# Altium footprint library Capacitor_SMD.PcbLib: 9 footprints
Each footprint in its own frame and in the unit in brackets; x right, y up, seen from the top. Pads: shape width x height; smd on the part's side, far side on the other; paste and mask are expansions set on the pad; w line width, h text height; cw(c..) or ccw(c..) is an arc to the next point about the centre after c.
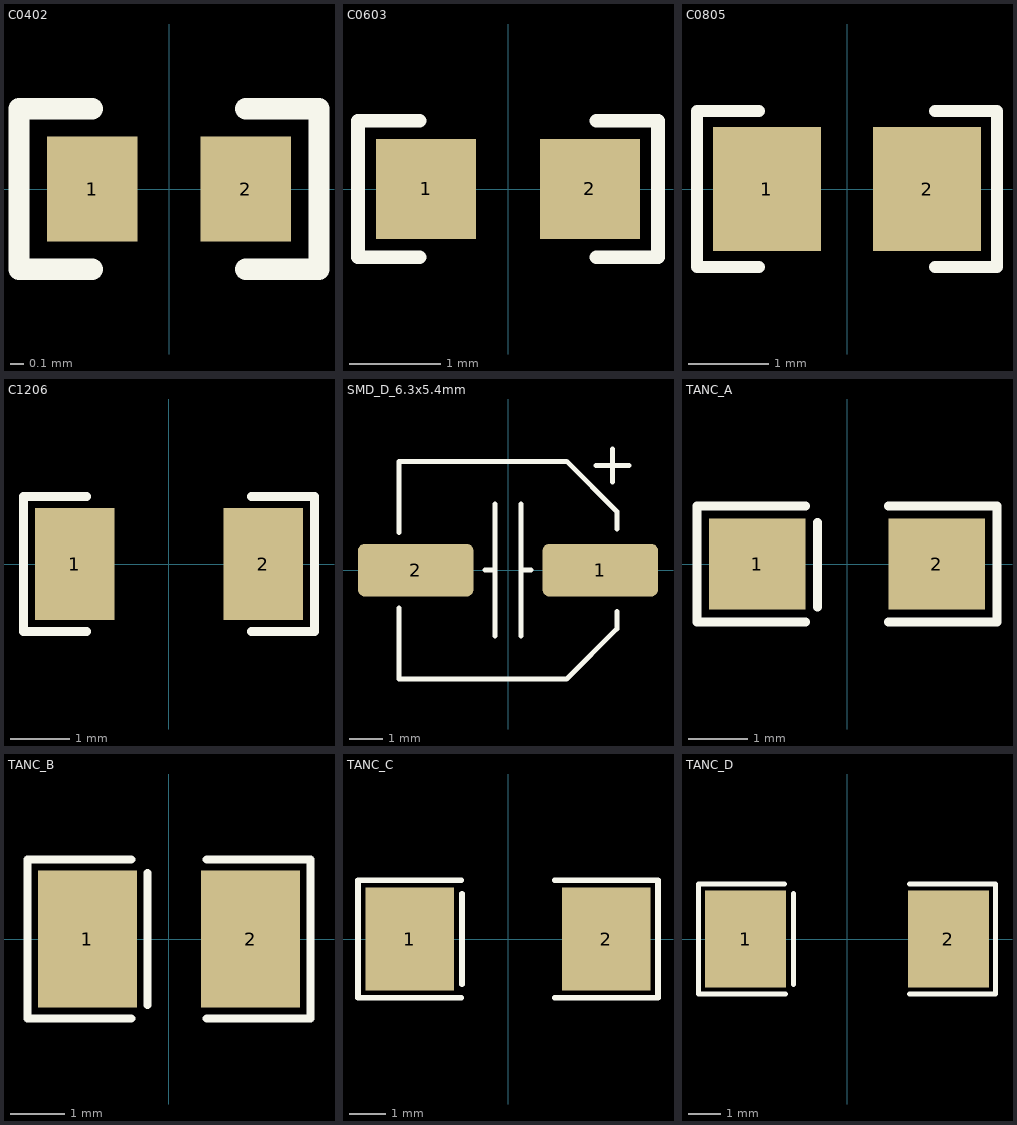
[diagram p0: the footprints below, top view; thin cyan lines are the x and y axes]

## C0402 [mm] "Chip Resistor, Body 1.0x0.5mm, IPC Low Density"
height 0.4
pads (2):
  rect 0.65x0.75 smd: 1(-0.55,0) 2(0.55,0)
Top Overlay:
  lines w0.152: -0.55,-0.575 -1.075,-0.575 -1.075,0.575 -0.55,0.575 ; 0.55,-0.575 1.075,-0.575 1.075,0.575 0.55,0.575
3D body: height 0.4, standoff 0, extent -0.525,-0.275 -0.3,0.275
3D body: height 0.4, standoff 0, extent -0.3,-0.275 0.3,0.275
3D body: height 0.4, standoff 0, extent 0.3,-0.275 0.525,0.275

## C0603 [mm] "Chip Resistor, Body 1.6x0.8mm, IPC Low Density"
height 0.6
pads (2):
  rect 1.1x1.1 smd: 1(-0.9,0) 2(0.9,0)
Top Overlay:
  lines w0.152: -0.975,-0.75 -1.65,-0.75 -1.65,0.75 -0.975,0.75 ; 0.975,-0.75 1.65,-0.75 1.65,0.75 0.975,0.75
3D body: height 0.6, standoff 0, extent -0.849,-0.474 -0.58,0.475
3D body: height 0.6, standoff 0, extent -0.58,-0.474 0.581,0.475
3D body: height 0.6, standoff 0, extent 0.581,-0.474 0.85,0.475

## C0805 [mm] "Chip Capacitor, Body 2.0x1.2mm, Height 1.3mm, IPC Low Density"
height 1.3
pads (2):
  rect 1.35x1.55 smd: 1(-1,0) 2(1,0)
Top Overlay:
  lines w0.152: -1.1,-0.975 -1.875,-0.975 -1.875,0.975 -1.1,0.975 ; 1.1,-0.975 1.875,-0.975 1.875,0.975 1.1,0.975
3D body: height 1.3, standoff 0, extent -0.6,-0.725 0.6,0.725
3D body: height 1.3, standoff 0, extent -1.1,-0.725 -0.6,0.725
3D body: height 1.3, standoff 0, extent 0.6,-0.725 1.1,0.725

## C1206 [mm] "Chip Capacitor, Body 3.2x1.6mm, Height 1.5mm, IPC Low Density"
height 1.5
pads (2):
  rect 1.35x1.9 smd: 1(-1.6,0) 2(1.6,0)
Top Overlay:
  lines w0.152: -1.4,-1.15 -2.475,-1.15 -2.475,1.15 -1.4,1.15 ; 1.4,-1.15 2.475,-1.15 2.475,1.15 1.4,1.15
3D body: height 1.5, standoff 0, extent -1.2,-0.9 1.2,0.9
3D body: height 1.5, standoff 0, extent -1.7,-0.9 -1.2,0.9
3D body: height 1.5, standoff 0, extent 1.2,-0.9 1.7,0.9

## SMD_D_6.3x5.4mm [mm]
height 11
pads (2):
  rrect25% 3.5x1.6 smd: 1(2.8,0) 2(-2.8,0)
Top Overlay:
  lines w0.152: -3.3,-1.15 -3.3,-3.3 1.78,-3.3 3.3,-1.78 3.3,-1.25 ; -3.3,1.15 -3.3,3.3 1.78,3.3 3.3,1.78 3.3,1.25 ; -0.7,0 -0.5,0 ; -0.4,-2 -0.4,2 ; 0.4,-2 0.4,2 ; 0.5,0 0.7,0 ; 2.675,3.175 3.175,3.175 3.675,3.175 ; 3.175,2.675 3.175,3.675
3D body: height 5.4, standoff 0, extent -3.5,-3.3 3.5,3.3

## TANC_A [mil]
pads (2):
  rect 64x60 smd: 1(-59.53,0) 2(59.53,0)
Top Overlay:
  lines w6: -27.56,-38.39 -99.41,-38.39 -99.41,38.39 -27.56,38.39 ; -19.68,-28.54 -19.68,27.56 ; 27.56,-38.39 99.41,-38.39 99.41,38.39 27.56,38.39
3D body: height 35, standoff 0, extent 61.52,-11.5 63.52,11.5
3D body: height 60, standoff 0, extent -63.46,-31.5 -38.46,31.5
3D body: height 62.99, standoff 0, extent -38.46,-31.5 62.52,31.5
3D body: height 62.99, standoff 60, extent -63.46,-31.5 -38.46,31.5
3D body: height 35, standoff 0, extent -64.46,-11.5 -62.46,11.5

## TANC_B [mil]
pads (2):
  rect 72x100 smd: 1(-59.53,0) 2(59.53,0)
Top Overlay:
  lines w6: -27.56,-58.07 -103.35,-58.07 -103.35,58.07 -27.56,58.07 ; -15.75,-48.23 -15.75,48.23 ; 27.56,-58.07 103.35,-58.07 103.35,58.07 27.56,58.07
3D body: height 39.37, standoff 0, extent 68.41,-11.5 70.41,11.5
3D body: height 71.81, standoff 0, extent -68.39,-55.12 -43.39,55.12
3D body: height 74.8, standoff 0, extent -43.39,-55.12 69.41,55.12
3D body: height 74.8, standoff 71.81, extent -68.39,-55.12 -43.39,55.12
3D body: height 39.37, standoff 0, extent -69.38,-11.5 -67.38,11.5

## TANC_C [mil]
pads (2):
  rect 95x110 smd: 1(-105,0) 2(105,0)
Top Overlay:
  lines w6: -50.2,-62.99 -160.43,-62.99 -160.43,62.99 -50.2,62.99 ; -49.21,-48.23 -49.21,48.23 ; 50.2,-62.99 160.43,-62.99 160.43,62.99 50.2,62.99
3D body: height 51.18, standoff 0, extent -119.79,-11.49 -117.79,11.51
3D body: height 98.43, standoff 95.43, extent -118.8,-62.99 -93.8,63
3D body: height 98.43, standoff 0, extent -93.8,-62.99 117.42,63
3D body: height 95.43, standoff 0, extent -118.8,-62.99 -93.8,63
3D body: height 51.18, standoff 0, extent 116.43,-11.49 118.43,11.51

## TANC_D [mil]
pads (2):
  rect 100x120 smd: 1(-125,0) 2(125,0)
Top Overlay:
  lines w6: -76.77,67.91 -183.07,67.91 -183.07,-67.91 -75.79,-67.91 ; -65.94,-56.1 -65.94,56.1 ; 76.77,-67.91 183.07,-67.91 183.07,67.91 76.77,67.91
3D body: height 35, standoff 0, extent -144.21,-11.5 -142.21,11.5
3D body: height 110.24, standoff 107.24, extent -143.21,-84.65 -118.21,84.65
3D body: height 110.24, standoff 0, extent -118.4,-84.64 144,84.65
3D body: height 107.24, standoff 0, extent -143.21,-84.65 -118.21,84.65
3D body: height 35, standoff 0, extent 143.2,-11.5 145.2,11.5